# Altium footprint library TSOP65P490X110-12N.PcbLib: 1 footprints
Each footprint in its own frame and in the unit in brackets; x right, y up, seen from the top. Pads: shape width x height; smd on the part's side, far side on the other; paste and mask are expansions set on the pad; w line width, h text height; cw(c..) or ccw(c..) is an arc to the next point about the centre after c.
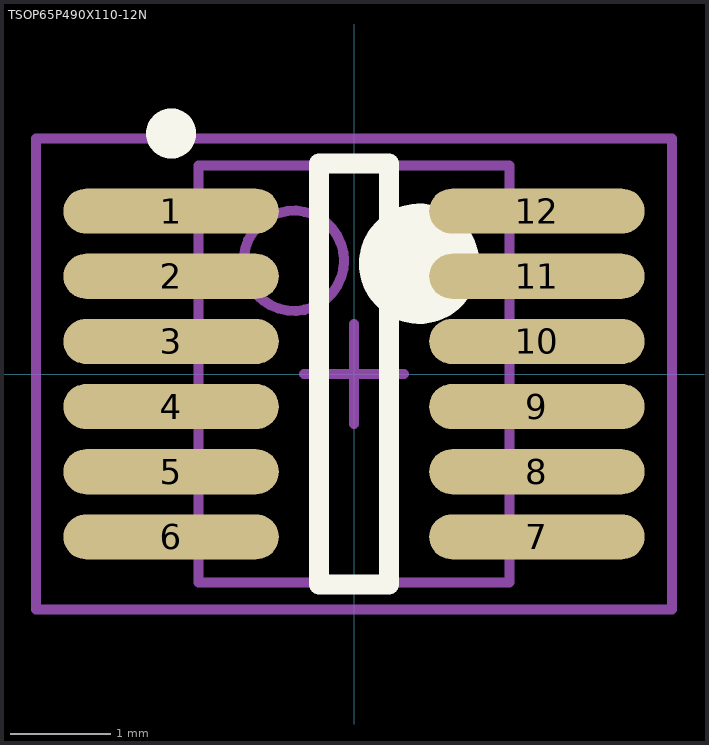
[diagram p0: the footprint, top view; thin cyan lines are the x and y axes]

## TSOP65P490X110-12N [mm] "TSOP, 12-Leads, Body 4.2x3.1mm (max), Pitch 0.65mm, IPC Medium Density"
height 1.1
pads (12):
  oval 2.15x0.45 smd: 1(-1.825,1.625) 2(-1.825,0.975) 3(-1.825,0.325) 4(-1.825,-0.325) 5(-1.825,-0.975) 6(-1.825,-1.625) 7(1.825,-1.625) 8(1.825,-0.975) 9(1.825,-0.325) 10(1.825,0.325) 11(1.825,0.975) 12(1.825,1.625)
Top Overlay:
  circle w0.25: c-1.825,2.4 r0.125
  circle w0.6: c0.65,1.1 r0.3
  lines w0.2: -0.35,-2.1 -0.35,2.1 0.35,2.1 0.35,-2.1 -0.35,-2.1
Mechanical 13:
  circle w0.1: c-0.6,1.13 r0.5
  lines w0.1: -1.55,-2.08 -1.55,2.08 1.55,2.08 1.55,-2.08 -1.55,-2.08
Mechanical 15:
  lines w0.1: -0.5,0 0.5,0 ; 0,-0.5 0,0.5 ; -3.175,-2.35 -3.175,2.35 3.175,2.35 3.175,-2.35 -3.175,-2.35
3D body: height 1.1, standoff 0.1, extent -1.55,-2.08 1.55,2.08